# Altium footprint library SVP_Common.PcbLib: 34 footprints (part 3 of 3)
Each footprint in its own frame and in the unit in brackets; x right, y up, seen from the top. Pads: shape width x height; smd on the part's side, far side on the other; paste and mask are expansions set on the pad; w line width, h text height; cw(c..) or ccw(c..) is an arc to the next point about the centre after c.
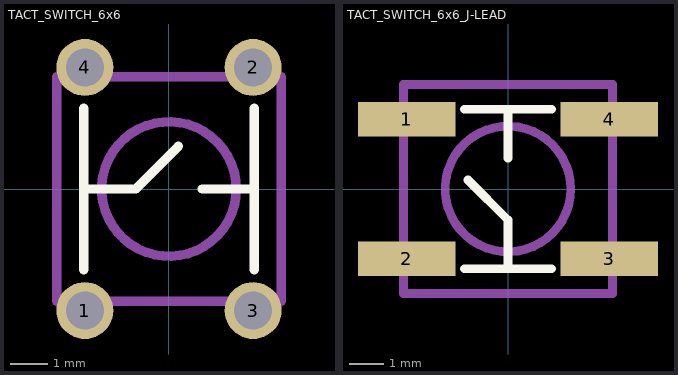
[diagram p2: the footprints below, top view; thin cyan lines are the x and y axes]

## TACT_SWITCH_6x6 [mil]
pads (4):
  round 60 hole 40: 1(-88.55,-127.92) 2(88.61,127.98) 3(88.61,-127.92) 4(-88.55,127.98)
Top Overlay:
  lines w10: -89.97,-84.97 -89.97,85.03 ; -89.97,0.03 -34.97,0.03 10.03,45.03 ; 35.03,0.03 90.03,0.03 ; 90.03,-84.97 90.03,85.03
Mechanical 13:
  circle w10: c0.03,0.03 r70.87
  lines w10: -118.08,-118.08 -118.08,118.14 118.14,118.14 118.14,-118.08 -118.08,-118.08
3D body "6mm_tact_switch.stp": height 169, standoff -25, extent -117.55,-127.92 118.45,127.47

## TACT_SWITCH_6x6_J-LEAD [mm] "SWITCH TACTILE SPST-NO"
pads (4):
  rect 2.8x1 smd: 1(-2.9,2) 2(-2.9,-2) 3(2.9,-2) 4(2.9,2)
Top Overlay:
  lines w0.254: -1.25,-2.285 1.25,-2.285 ; -1.25,2.287 1.25,2.287 ; -1.144,0.255 -0.001,-0.888 -0.001,-2.285 ; -0.001,0.89 -0.001,2.287
Mechanical 13:
  circle w0.254: c-0.001,0.001 r1.8
  lines w0.254: -3.001,-2.999 -3.001,3.001 2.999,3.001 2.999,-2.999 -3.001,-2.999
3D body "User Library-KSC241J.STEP": height 3.48, standoff -0.02, extent -3.4,-3.1 3.4,3.1